# Altium schematic symbol library Allwinner.SCHLIB: 22 symbols (part 2 of 2)
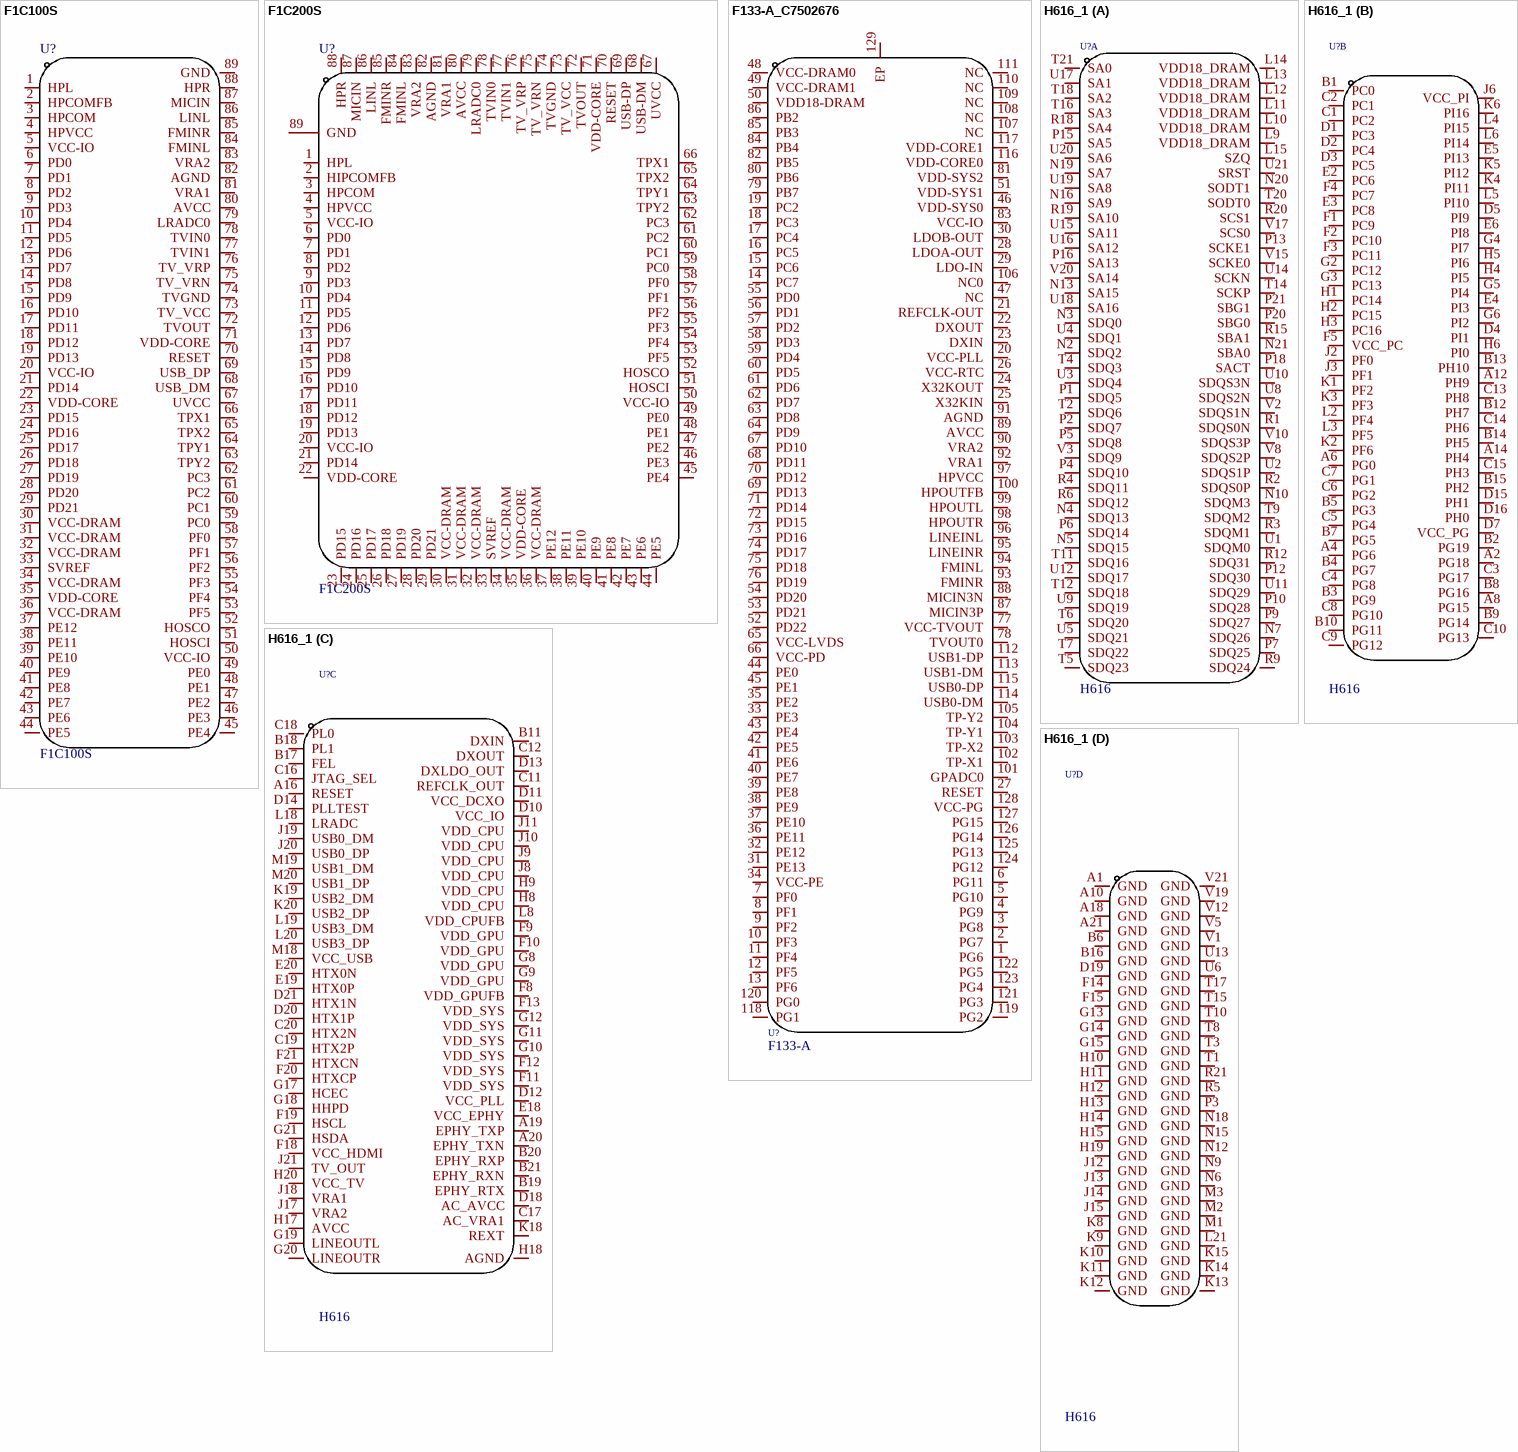
[diagram p16: symbols F1C100S to H616_1]

## F1C100S
designator U?
CPU Core:- CPU Maximum Speed:- Operating Voltage Range:- Operating Voltage Range:- Program Storage Size:- Program Memory Type:- RAM Size:- EEPROM:- GPIO Ports Number:- ADC (Bit):- DAC (Bit):- PWM (Bit):- 8Bit Timer:- 16Bit Timer:- 32Bit Timer:- CAN:- UART; Manufacturer: Allwinner(全志); Add into BOM: yes; Symbol: F1C100S; Device: F1C100S; LCSC Part Name: Allwinner F1C100S Allwinner F1C100S; Supplier Part: C1511928; Manufacturer Part: F1C100S; Supplier Footprint: MQFN-88; JLCPCB Part Class: Extended Part; Datasheet: https://atta.szlcsc.com/upload/public/pdf/source/20220817/8C890E767EBF81E3D5A44882F29EEFA7.pdf; Supplier: LCSC; Convert to PCB: yes; CPU Core: -; CPU Maximum Speed: -; Operating Voltage Range: -; Program Storage Size: -; Program Memory Type: -; RAM Size: -; EEPROM: -; GPIO Ports Number: -; ADC (Bit): -; DAC (Bit): -; PWM (Bit): -; 8Bit Timer: -; 16Bit Timer: -; 32Bit Timer: -; CAN: -; UART/USART: -; I2C: -; I2S: -; SPI: -; Universal Serial Bus: -; Internal Comparator: -; Peripheral/Function: -; communication protocol: -; Watchdog: -; Real-Time Clock: -; Infrared Data Association: -; Low-Voltage Detect: -; CCP Capture/Compare: -; LCD Module: -; LED Module: -; Secure Digital Input and Output: -; Direct Memory Access: -; Internal Oscillator: -; Operating Temperature Range: -; Name: F1C100S
footprint QFN-88_L10.0-W10.0-P0.40-BL-EP6.75
3D model QFN-88_L10.0-W10.0-H0.8-P0.40-BL-EP
pins: 1 HPL, 2 HPCOMFB, 3 HPCOM, 4 HPVCC, 5 VCC-IO, 6 PD0, 7 PD1, 8 PD2, 9 PD3, 10 PD4, 11 PD5, 12 PD6, 13 PD7, 14 PD8, 15 PD9, 16 PD10, 17 PD11, 18 PD12, 19 PD13, 20 VCC-IO, 21 PD14, 22 VDD-CORE, 23 PD15, 24 PD16, 25 PD17, 26 PD18, 27 PD19, 28 PD20, 29 PD21, 30 VCC-DRAM, 31 VCC-DRAM, 32 VCC-DRAM, 33 SVREF, 34 VCC-DRAM, 35 VDD-CORE, 36 VCC-DRAM, 37 PE12, 38 PE11, 39 PE10, 40 PE9, 41 PE8, 42 PE7, 43 PE6, 44 PE5, 45 PE4, 46 PE3, 47 PE2, 48 PE1, 49 PE0, 50 VCC-IO, 51 HOSCI, 52 HOSCO, 53 PF5, 54 PF4, 55 PF3, 56 PF2, 57 PF1, 58 PF0, 59 PC0, 60 PC1, 61 PC2, 62 PC3, 63 TPY2, 64 TPY1, 65 TPX2, 66 TPX1, 67 UVCC, 68 USB_DM, 69 USB_DP, 70 RESET, 71 VDD-CORE, 72 TVOUT, 73 TV_VCC, 74 TVGND, 75 TV_VRN, 76 TV_VRP, 77 TVIN1, 78 TVIN0, 79 LRADC0, 80 AVCC, 81 VRA1, 82 AGND, 83 VRA2, 84 FMINL, 85 FMINR, 86 LINL, 87 MICIN, 88 HPR, 89 GND

## F1C200S
designator U?
CPU Core:- CPU Maximum Speed:- Operating Voltage Range:- Operating Voltage Range:- Program Storage Size:- Program Memory Type:- RAM Size:- EEPROM:- GPIO Ports Number:- ADC (Bit):- DAC (Bit):- PWM (Bit):- 8Bit Timer:- 16Bit Timer:- 32Bit Timer:- CAN:- UART; Manufacturer: Allwinner(全志); Add into BOM: yes; Symbol: F1C200S; Device: F1C200S; LCSC Part Name: Allwinner F1C200S Allwinner F1C200S; Supplier Part: C2879851; Manufacturer Part: F1C200S; Supplier Footprint: QFN-88-EP(10x10); JLCPCB Part Class: Extended Part; Datasheet: https://atta.szlcsc.com/upload/public/pdf/source/20211016/C2879851_80200E64F493B5C5B5C583D1EECFE2F1.pdf; Supplier: LCSC; Convert to PCB: yes; CPU Core: -; CPU Maximum Speed: -; Operating Voltage Range: -; Program Storage Size: -; Program Memory Type: -; RAM Size: -; EEPROM: -; GPIO Ports Number: -; ADC (Bit): -; DAC (Bit): -; PWM (Bit): -; 8Bit Timer: -; 16Bit Timer: -; 32Bit Timer: -; CAN: -; UART/USART: -; I2C: -; I2S: -; SPI: -; Universal Serial Bus: -; Internal Comparator: -; Peripheral/Function: -; communication protocol: -; Watchdog: -; Real-Time Clock: -; Infrared Data Association: -; Low-Voltage Detect: -; CCP Capture/Compare: -; LCD Module: -; LED Module: -; Secure Digital Input and Output: -; Direct Memory Access: -; Internal Oscillator: -; Operating Temperature Range: -; Name: F1C200S
footprint QFN-88_L10.0-W10.0-P0.40-BL-EP6.75
3D model QFN-88_L10.0-W10.0-H0.8-P0.40-BL-EP
pins: 1 HPL, 2 HIPCOMFB, 3 HPCOM, 4 HPVCC, 5 VCC-IO, 6 PD0, 7 PD1, 8 PD2, 9 PD3, 10 PD4, 11 PD5, 12 PD6, 13 PD7, 14 PD8, 15 PD9, 16 PD10, 17 PD11, 18 PD12, 19 PD13, 20 VCC-IO, 21 PD14, 22 VDD-CORE, 23 PD15, 24 PD16, 25 PD17, 26 PD18, 27 PD19, 28 PD20, 29 PD21, 30 VCC-DRAM, 31 VCC-DRAM, 32 VCC-DRAM, 33 SVREF, 34 VCC-DRAM, 35 VDD-CORE, 36 VCC-DRAM, 37 PE12, 38 PE11, 39 PE10, 40 PE9, 41 PE8, 42 PE7, 43 PE6, 44 PE5, 45 PE4, 46 PE3, 47 PE2, 48 PE1, 49 PE0, 50 VCC-IO, 51 HOSCI, 52 HOSCO, 53 PF5, 54 PF4, 55 PF3, 56 PF2, 57 PF1, 58 PF0, 59 PC0, 60 PC1, 61 PC2, 62 PC3, 63 TPY2, 64 TPY1, 65 TPX2, 66 TPX1, 67 UVCC, 68 USB-DM, 69 USB-DP, 70 RESET, 71 VDD-CORE, 72 TVOUT, 73 TV_VCC, 74 TVGND, 75 TV_VRN, 76 TV_VRP, 77 TVIN1, 78 TVIN0, 79 LRADC0, 80 AVCC, 81 VRA1, 82 AGND, 83 VRA2, 84 FMINL, 85 FMINR, 86 LINL, 87 MICIN, 88 HPR, 89 GND

## F133-A_C7502676
designator U?, comment F133-A
Manufacturer: Allwinner(全志); Symbol: F133-A_C7502676; Add into BOM: yes; Name: F133-A; Device: F133-A_C7502676; LCSC Part Name: F133-A; Supplier Part: C7502676; Manufacturer Part: F133-A; Supplier Footprint: TQFP128; Supplier: LCSC; Convert to PCB: yes
footprint TQFP-128_L14.0-W14.0-P0.40-LS16.0-BL-EP6.4
3D model TQFP-128_L14.0-W14.0-P0.40-LS16.0-BL-EP6.4
pins: 1 PG6, 2 PG7, 3 PG8, 4 PG9, 5 PG10, 6 PG11, 7 PF0, 8 PF1, 9 PF2, 10 PF3, 11 PF4, 12 PF5, 13 PF6, 14 PC7, 15 PC6, 16 PC5, 17 PC4, 18 PC3, 19 PC2, 20 VCC-PLL, 21 REFCLK-OUT, 22 DXOUT, 23 DXIN, 24 X32KOUT, 25 X32KIN, 26 VCC-RTC, 27 RESET, 28 LDOA-OUT, 29 LDO-IN, 30 LDOB-OUT, 31 PE13, 32 PE12, 33 PE3, 34 VCC-PE, 35 PE2, 36 PE11, 37 PE10, 38 PE9, 39 PE8, 40 PE7, 41 PE6, 42 PE5, 43 PE4, 44 PE0, 45 PE1, 46 VDD-SYS0, 47 NC, 48 VCC-DRAM0, 49 VCC-DRAM1, 50 VDD18-DRAM, 51 VDD-SYS1, 52 PD22, 53 PD21, 54 PD20, 55 PD0, 56 PD1, 57 PD2, 58 PD3, 59 PD4, 60 PD5, 61 PD6, 62 PD7, 63 PD8, 64 PD9, 65 VCC-LVDS, 66 VCC-PD, 67 PD10, 68 PD11, 69 PD13, 70 PD12, 71 PD14, 72 PD15, 73 PD16, 74 PD17, 75 PD18, 76 PD19, 77 VCC-TVOUT, 78 TVOUT0, 79 PB7, 80 PB6, 81 VDD-SYS2, 82 PB5, 83 VCC-IO, 84 PB4, 85 PB3, 86 PB2, 87 MICIN3P, 88 MICIN3N, 89 AVCC, 90 VRA2, 91 AGND, 92 VRA1, 93 FMINR, 94 FMINL, 95 LINEINR, 96 LINEINL, 97 HPVCC, 98 HPOUTR, 99 HPOUTL, 100 HPOUTFB, 101 GPADC0, 102 TP-X1, 103 TP-X2, 104 TP-Y1, 105 TP-Y2, 106 NC0, 107 NC, 108 NC, 109 NC, 110 NC, 111 NC, 112 USB1-DP, 113 USB1-DM, 114 USB0-DM, 115 USB0-DP, 116 VDD-CORE0, 117 VDD-CORE1, 118 PG1, 119 PG2, 120 PG0, 121 PG3, 122 PG5, 123 PG4, 124 PG12, 125 PG13, 126 PG14, 127 PG15, 128 VCC-PG, 129 EP

## H616_1
designator U?, comment H616
Manufacturer: Allwinner(全志); Symbol: H616_C5365289; Device: H616_1; Add into BOM: yes; Name: H616; LCSC Part Name: Allwinner H616; Supplier Part: C5365289; Manufacturer Part: H616; Supplier Footprint: TFBGA-284; JLCPCB Part Class: Extended Part; Supplier: LCSC; Convert to PCB: yes
footprint BGA-284_L14.0-W12.0-P0.65-TL
3D model BGA-284_L14.0-W12.0-P0.65-TL
part A pins: L9 VDD18_DRAM, L10 VDD18_DRAM, L11 VDD18_DRAM, L12 VDD18_DRAM, L13 VDD18_DRAM, L14 VDD18_DRAM, L15 SZQ, N2 SDQ2, N3 SDQ0, N4 SDQ13, N5 SDQ15, N7 SDQ26, N10 SDQM3, N13 SA15, N16 SA9, N19 SA7, N20 SODT1, N21 SBA0, P1 SDQ5, P2 SDQ7, P4 SDQ10, P5 SDQ8, P6 SDQ14, P7 SDQ25, P9 SDQ27, P10 SDQ28, P12 SDQ30, P13 SCKE1, P15 SA5, P16 SA13, P18 SACT, P20 SBG0, P21 SBG1, R1 SDQS0N, R2 SDQS0P, R3 SDQM1, R4 SDQ11, R6 SDQ12, R9 SDQ24, R12 SDQ31, R15 SBA1, R18 SA4, R19 SA10, R20 SCS1, T2 SDQ6, T4 SDQ3, T5 SDQ23, T6 SDQ20, T7 SDQ22, T9 SDQM2, T11 SDQ16, T12 SDQ18, T14 SCKP, T16 SA3, T18 SA2, T20 SODT0, T21 SA0, U1 SDQM0, U2 SDQS1P, U3 SDQ4, U4 SDQ1, U5 SDQ21, U8 SDQS2N, U9 SDQ19, U10 SDQS3N, U11 SDQ29, U12 SDQ17, U14 SCKN, U15 SA11, U16 SA12, U17 SA1, U18 SA16, U19 SA8, U20 SA6, U21 SRST, V2 SDQS1N, V3 SDQ9, V8 SDQS2P, V10 SDQS3P, V15 SCKE0, V17 SCS0, V20 SA14
part B pins: A2 PG18, A4 PG6, A6 PG0, A8 PG15, A12 PH9, A14 PH4, B1 PC0, B2 PG19, B3 PG9, B4 PG7, B5 PG3, B7 PG5, B8 PG16, B9 PG14, B10 PG11, B12 PH7, B13 PH10, B14 PH5, B15 PH2, C1 PC2, C2 PC1, C3 PG17, C4 PG8, C5 PG4, C6 PG2, C7 PG1, C8 PG10, C9 PG12, C10 PG13, C13 PH8, C14 PH6, C15 PH3, D1 PC3, D2 PC4, D3 PC5, D4 PI1, D5 PI9, D7 VCC_PG, D15 PH1, D16 PH0, E2 PC6, E3 PC8, E4 PI3, E5 PI13, E6 PI8, F1 PC9, F2 PC10, F3 PC11, F4 PC7, F5 VCC_PC, G2 PC12, G3 PC13, G4 PI7, G5 PI4, G6 PI2, H1 PC14, H2 PC15, H3 PC16, H4 PI5, H5 PI6, H6 PI0, J2 PF0, J3 PF1, J6 VCC_PI, K1 PF2, K2 PF6, K3 PF3, K4 PI11, K5 PI12, K6 PI16, L2 PF4, L3 PF5, L4 PI15, L5 PI10, L6 PI14
part C pins: A16 RESET, A19 EPHY_TXP, A20 EPHY_TXN, B11 DXIN, B17 FEL, B18 PL1, B19 EPHY_RTX, B20 EPHY_RXP, B21 EPHY_RXN, C11 REFCLK_OUT, C12 DXOUT, C16 JTAG_SEL, C17 AC_VRA1, C18 PL0, C19 HTX2P, C20 HTX2N, D10 VCC_IO, D11 VCC_DCXO, D12 VCC_PLL, D13 DXLDO_OUT, D14 PLLTEST, D18 AC_AVCC, D20 HTX1P, D21 HTX1N, E18 VCC_EPHY, E19 HTX0P, E20 HTX0N, F8 VDD_GPUFB, F9 VDD_GPU, F10 VDD_GPU, F11 VDD_SYS, F12 VDD_SYS, F13 VDD_SYS, F18 VCC_HDMI, F19 HSCL, F20 HTXCP, F21 HTXCN, G8 VDD_GPU, G9 VDD_GPU, G10 VDD_SYS, G11 VDD_SYS, G12 VDD_SYS, G17 HCEC, G18 HHPD, G19 LINEOUTL, G20 LINEOUTR, G21 HSDA, H8 VDD_CPU, H9 VDD_CPU, H17 AVCC, H18 AGND, H20 VCC_TV, J8 VDD_CPU, J9 VDD_CPU, J10 VDD_CPU, J11 VDD_CPU, J17 VRA2, J18 VRA1, J19 USB0_DM, J20 USB0_DP, J21 TV_OUT, K18 REXT, K19 USB2_DM, K20 USB2_DP, L8 VDD_CPUFB, L18 LRADC, L19 USB3_DM, L20 USB3_DP, M18 VCC_USB, M19 USB1_DM, M20 USB1_DP
part D pins: A1 GND, A10 GND, A18 GND, A21 GND, B6 GND, B16 GND, D19 GND, F14 GND, F15 GND, G13 GND, G14 GND, G15 GND, H10 GND, H11 GND, H12 GND, H13 GND, H14 GND, H15 GND, H19 GND, J12 GND, J13 GND, J14 GND, J15 GND, K8 GND, K9 GND, K10 GND, K11 GND, K12 GND, K13 GND, K14 GND, K15 GND, L21 GND, M1 GND, M2 GND, M3 GND, N6 GND, N9 GND, N12 GND, N15 GND, N18 GND, P3 GND, R5 GND, R21 GND, T1 GND, T3 GND, T8 GND, T10 GND, T15 GND, T17 GND, U6 GND, U13 GND, V1 GND, V5 GND, V12 GND, V19 GND, V21 GND

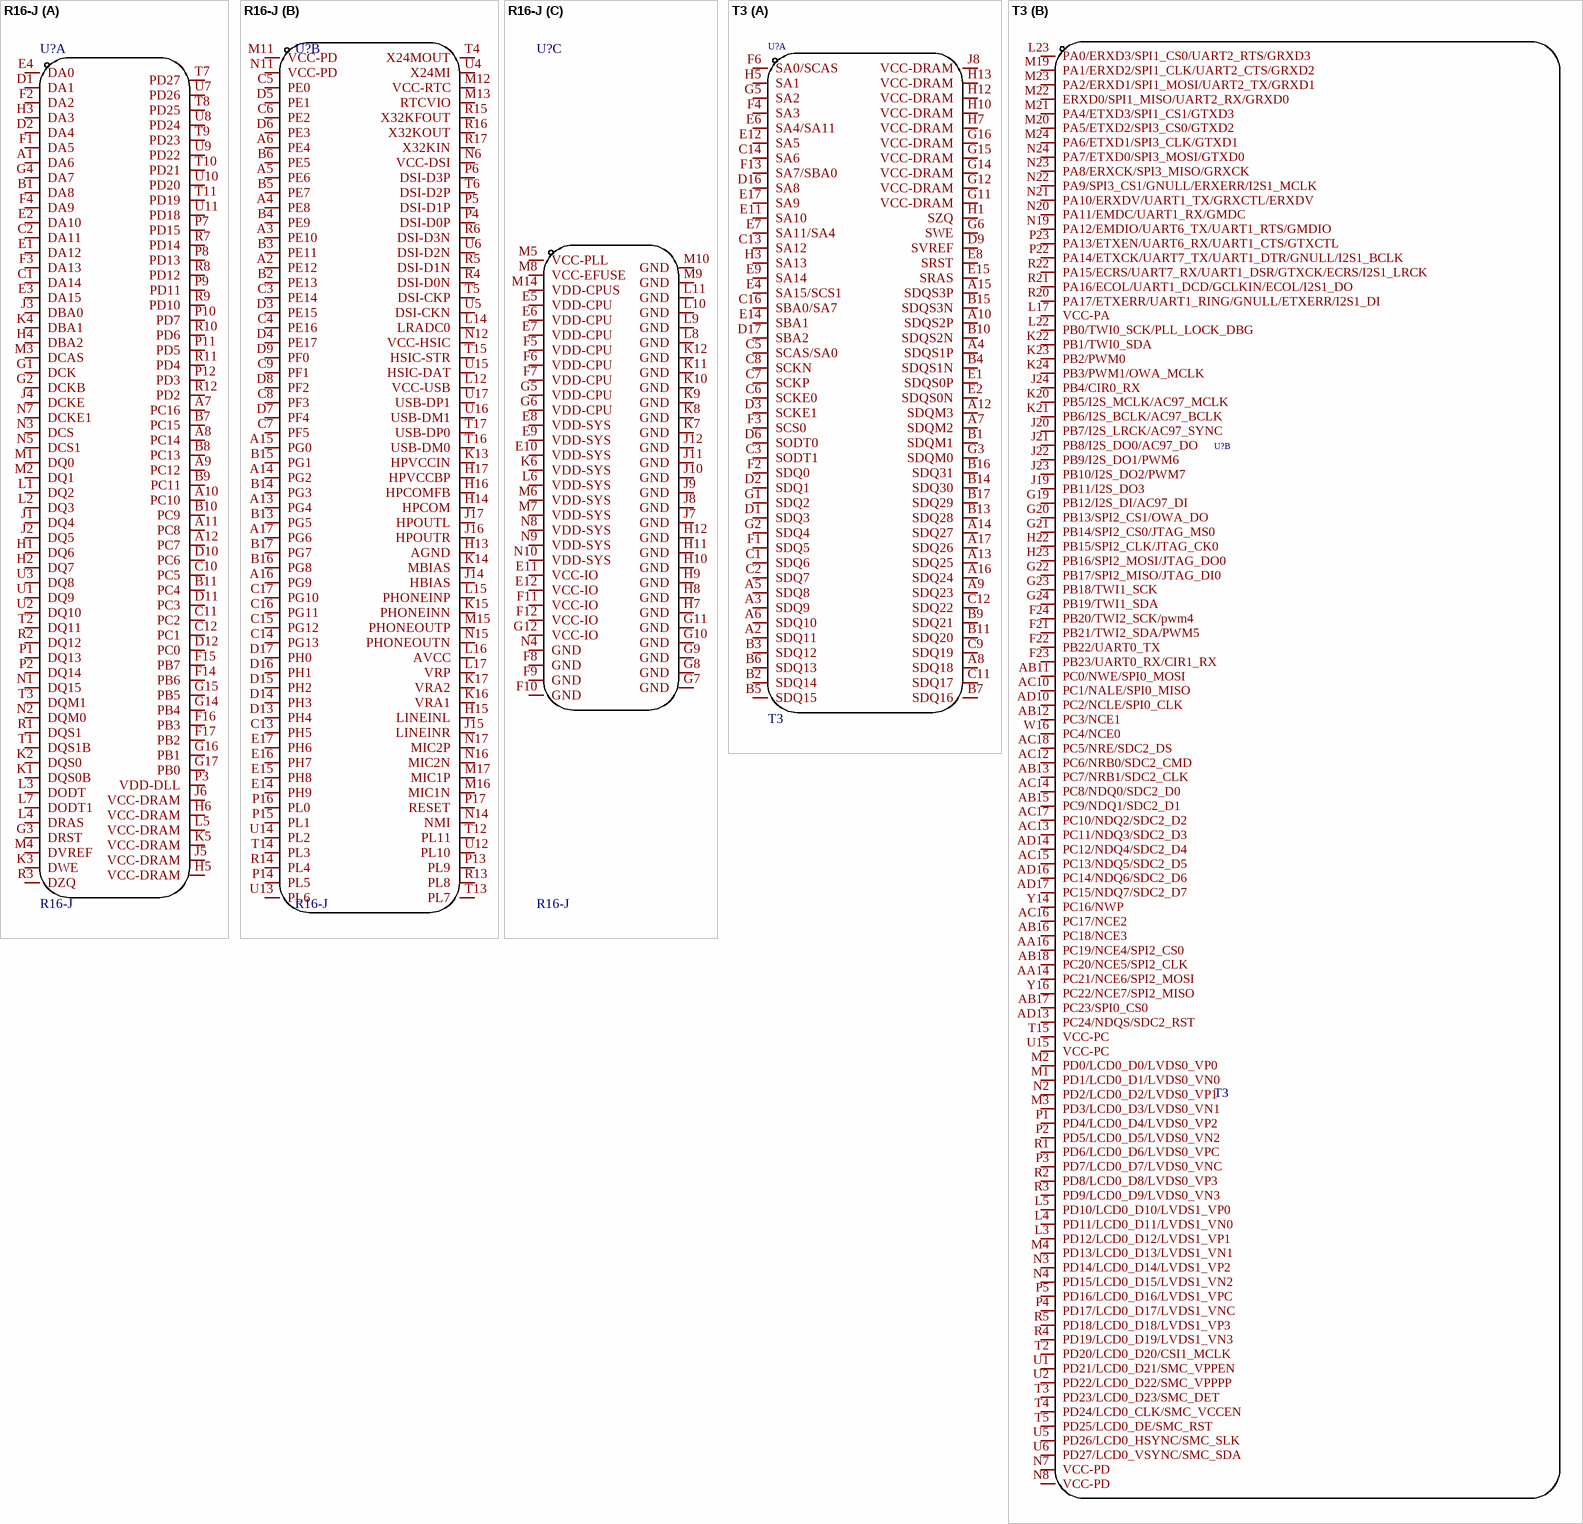
[diagram p12: symbols R16-J to T3]

## R16-J
designator U?
CPU Core:- CPU Maximum Speed:- Operating Voltage Range:- Operating Voltage Range:- Program Storage Size:- Program Memory Type:- RAM Size:- EEPROM:- GPIO Ports Number:- ADC (Bit):- DAC (Bit):- PWM (Bit):- 8Bit Timer:- 16Bit Timer:- 32Bit Timer:- CAN:- UART; Manufacturer: Allwinner(全志); Add into BOM: yes; Name: R16-J; Symbol: R16-J; Device: R16-J; LCSC Part Name: Allwinner R16-J Allwinner R16-J; Supplier Part: C3036463; Manufacturer Part: R16-J; Supplier Footprint: BGA-282; JLCPCB Part Class: Extended Part; Supplier: LCSC; Convert to PCB: yes; CPU Core: -; CPU Maximum Speed: -; Operating Voltage Range: -; Program Storage Size: -; Program Memory Type: -; RAM Size: -; EEPROM: -; GPIO Ports Number: -; ADC (Bit): -; DAC (Bit): -; PWM (Bit): -; 8Bit Timer: -; 16Bit Timer: -; 32Bit Timer: -; CAN: -; UART/USART: -; I2C: -; I2S: -; SPI: -; Universal Serial Bus: -; Internal Comparator: -; Peripheral/Function: -; communication protocol: -; Watchdog: -; Real-Time Clock: -; Infrared Data Association: -; Low-Voltage Detect: -; CCP Capture/Compare: -; LCD Module: -; LED Module: -; Secure Digital Input and Output: -; Direct Memory Access: -; Internal Oscillator: -; Operating Temperature Range: -
footprint BGA-282_L14.0-W14.0-R17-W17-P0.8-TL
3D model BGA-282_L14.0-W14.0-R17-W17-P0.8-TL
part A pins: A1 DA6, A7 PC16, A8 PC14, A9 PC12, A10 PC10, A11 PC8, A12 PC7, B1 DA8, B7 PC15, B8 PC13, B9 PC11, B10 PC9, B11 PC4, C1 DA14, C2 DA11, C10 PC5, C11 PC2, C12 PC1, D1 DA1, D2 DA4, D10 PC6, D11 PC3, D12 PC0, E1 DA12, E2 DA10, E3 DA15, E4 DA0, F1 DA5, F2 DA2, F3 DA13, F4 DA9, F14 PB6, F15 PB7, F16 PB3, F17 PB2, G1 DCK, G2 DCKB, G3 DRST, G4 DA7, G14 PB4, G15 PB5, G16 PB1, G17 PB0, H1 DQ6, H2 DQ7, H3 DA3, H4 DBA2, H5 VCC-DRAM, H6 VCC-DRAM, J1 DQ4, J2 DQ5, J3 DBA0, J4 DCKE, J5 VCC-DRAM, J6 VCC-DRAM, K1 DQS0B, K2 DQS0, K3 DWE, K4 DBA1, K5 VCC-DRAM, L1 DQ2, L2 DQ3, L3 DODT, L4 DRAS, L5 VCC-DRAM, L7 DODT1, M1 DQ0, M2 DQ1, M3 DCAS, M4 DVREF, N1 DQ15, N2 DQM0, N3 DCS, N5 DCS1, N7 DCKE1, P1 DQ13, P2 DQ14, P3 VDD-DLL, P7 PD15, P8 PD13, P9 PD11, P10 PD7, P11 PD5, P12 PD3, R1 DQS1, R2 DQ12, R3 DZQ, R7 PD14, R8 PD12, R9 PD10, R10 PD6, R11 PD4, R12 PD2, T1 DQS1B, T2 DQ11, T3 DQM1, T7 PD27, T8 PD25, T9 PD23, T10 PD21, T11 PD19, U1 DQ9, U2 DQ10, U3 DQ8, U7 PD26, U8 PD24, U9 PD22, U10 PD20, U11 PD18
part B pins: A2 PE12, A3 PE10, A4 PE8, A5 PE6, A6 PE4, A13 PG4, A14 PG2, A15 PG0, A16 PG9, A17 PG6, B2 PE13, B3 PE11, B4 PE9, B5 PE7, B6 PE5, B13 PG5, B14 PG3, B15 PG1, B16 PG8, B17 PG7, C3 PE14, C4 PE16, C5 PE0, C6 PE2, C7 PF5, C8 PF3, C9 PF1, C13 PH5, C14 PG13, C15 PG12, C16 PG11, C17 PG10, D3 PE15, D4 PE17, D5 PE1, D6 PE3, D7 PF4, D8 PF2, D9 PF0, D13 PH4, D14 PH3, D15 PH2, D16 PH1, D17 PH0, E14 PH9, E15 PH8, E16 PH7, E17 PH6, H13 AGND, H14 HPCOM, H15 LINEINL, H16 HPCOMFB, H17 HPVCCBP, J14 HBIAS, J15 LINEINR, J16 HPOUTR, J17 HPOUTL, K13 HPVCCIN, K14 MBIAS, K15 PHONEINN, K16 VRA1, K17 VRA2, L12 VCC-USB, L14 LRADC0, L15 PHONEINP, L16 AVCC, L17 VRP, M11 VCC-PD, M12 VCC-RTC, M13 RTCVIO, M15 PHONEOUTP, M16 MIC1N, M17 MIC1P, N6 VCC-DSI, N11 VCC-PD, N12 VCC-HSIC, N14 NMI, N15 PHONEOUTN, N16 MIC2N, N17 MIC2P, P4 DSI-D0P, P5 DSI-D1P, P6 DSI-D3P, P13 PL9, P14 PL5, P15 PL1, P16 PL0, P17 RESET, R4 DSI-D0N, R5 DSI-D1N, R6 DSI-D3N, R13 PL8, R14 PL4, R15 X32KFOUT, R16 X32KOUT, R17 X32KIN, T4 X24MOUT, T5 DSI-CKP, T6 DSI-D2P, T12 PL11, T13 PL7, T14 PL3, T15 HSIC-STR, T16 USB-DM0, T17 USB-DP0, U4 X24MI, U5 DSI-CKN, U6 DSI-D2N, U12 PL10, U13 PL6, U14 PL2, U15 HSIC-DAT, U16 USB-DM1, U17 USB-DP1
part C pins: E5 VDD-CPU, E6 VDD-CPU, E7 VDD-CPU, E8 VDD-SYS, E9 VDD-SYS, E10 VDD-SYS, E11 VCC-IO, E12 VCC-IO, F5 VDD-CPU, F6 VDD-CPU, F7 VDD-CPU, F8 GND, F9 GND, F10 GND, F11 VCC-IO, F12 VCC-IO, G5 VDD-CPU, G6 VDD-CPU, G7 GND, G8 GND, G9 GND, G10 GND, G11 GND, G12 VCC-IO, H7 GND, H8 GND, H9 GND, H10 GND, H11 GND, H12 GND, J7 GND, J8 GND, J9 GND, J10 GND, J11 GND, J12 GND, K6 VDD-SYS, K7 GND, K8 GND, K9 GND, K10 GND, K11 GND, K12 GND, L6 VDD-SYS, L8 GND, L9 GND, L10 GND, L11 GND, M5 VCC-PLL, M6 VDD-SYS, M7 VDD-SYS, M8 VCC-EFUSE, M9 GND, M10 GND, M14 VDD-CPUS, N4 GND, N8 VDD-SYS, N9 VDD-SYS, N10 VDD-SYS

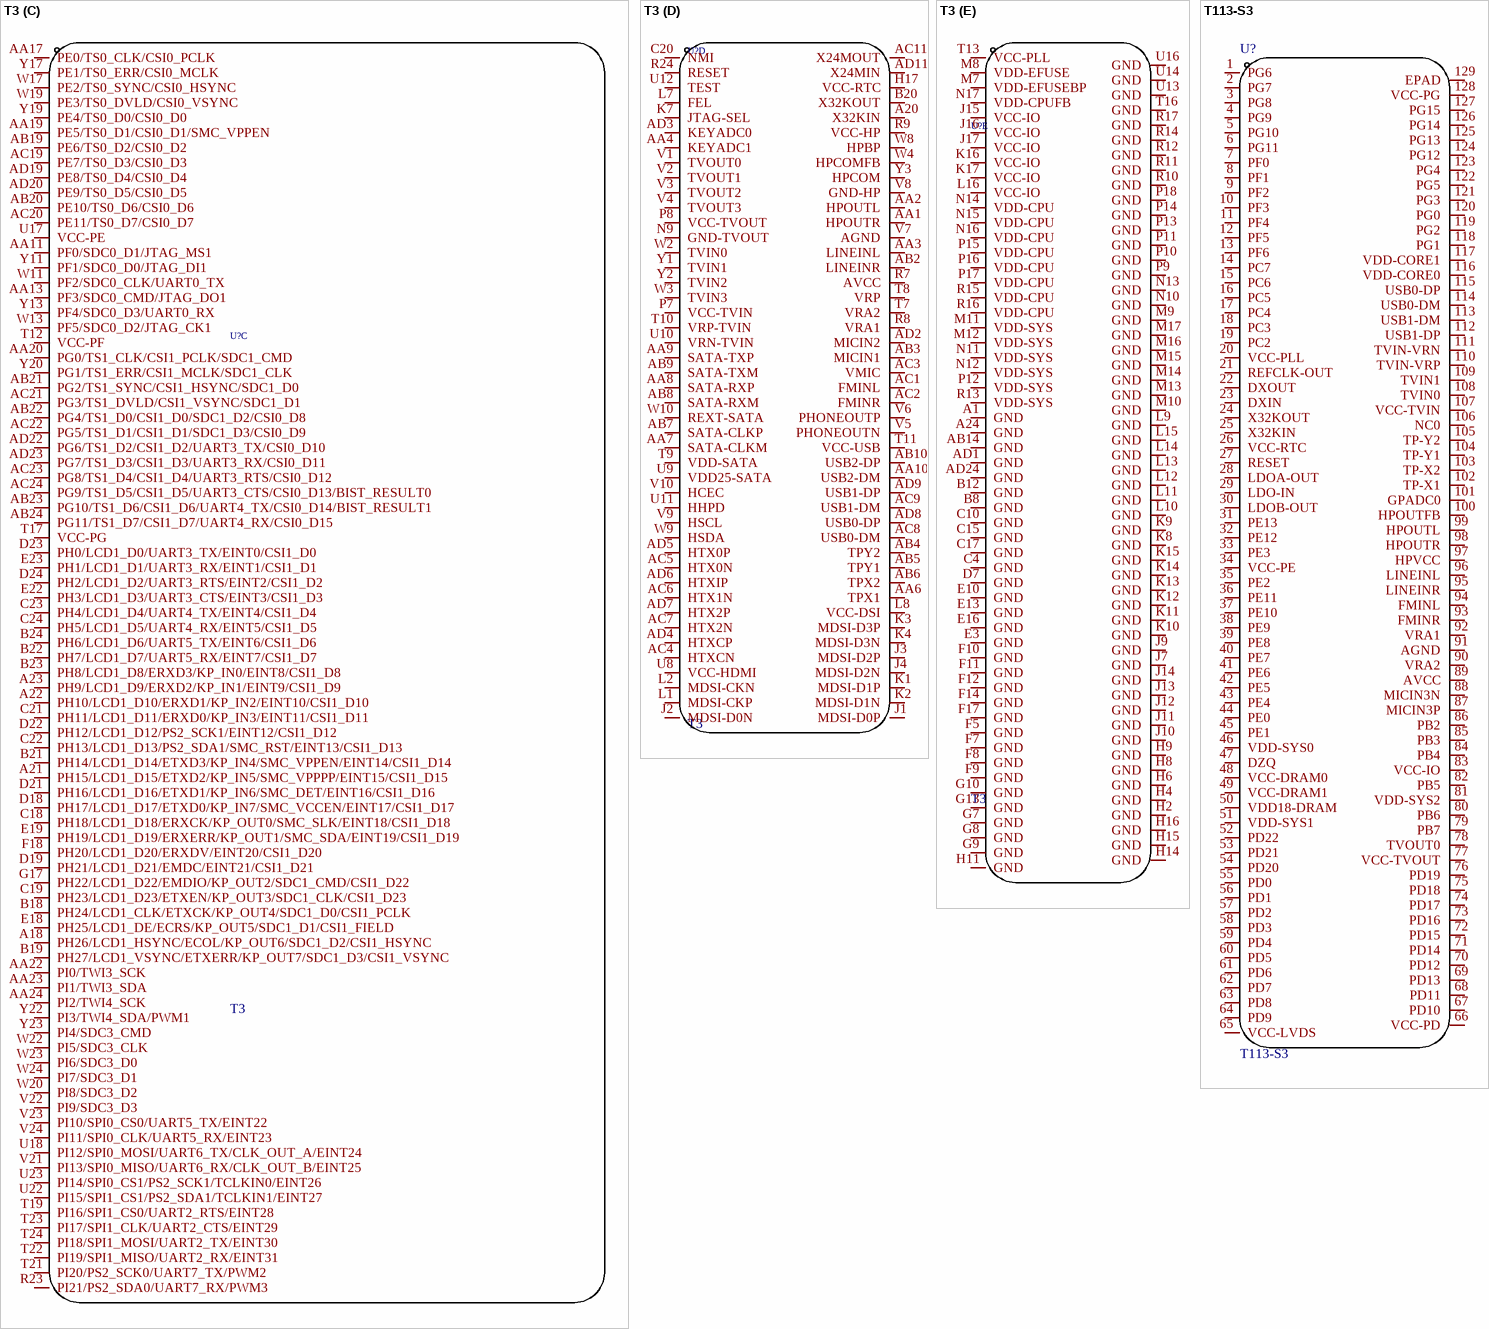
[diagram p13: symbols T3 to T113-S3]

## T3
designator U?
CPU Core:- CPU Maximum Speed:- Operating Voltage Range:- Operating Voltage Range:- Program Storage Size:- Program Memory Type:- RAM Size:- EEPROM:- GPIO Ports Number:- ADC (Bit):- DAC (Bit):- PWM (Bit):- 8Bit Timer:- 16Bit Timer:- 32Bit Timer:- CAN:- UART; Manufacturer: Allwinner(全志); Add into BOM: yes; Name: T3; Symbol: T3; Device: T3; LCSC Part Name: Allwinner T3; Supplier Part: C3036455; Manufacturer Part: T3; Supplier Footprint: FBGA-468; JLCPCB Part Class: Extended Part; Datasheet: https://atta.szlcsc.com/upload/public/pdf/source/20230317/83FE15C376713AF034FCA506A34F6F3D.pdf; Supplier: LCSC; Convert to PCB: yes; CPU Core: -; CPU Maximum Speed: -; Operating Voltage Range: -; Program Storage Size: -; Program Memory Type: -; RAM Size: -; EEPROM: -; GPIO Ports Number: -; ADC (Bit): -; DAC (Bit): -; PWM (Bit): -; 8Bit Timer: -; 16Bit Timer: -; 32Bit Timer: -; CAN: -; UART/USART: -; I2C: -; I2S: -; SPI: -; Universal Serial Bus: -; Internal Comparator: -; Peripheral/Function: -; communication protocol: -; Watchdog: -; Real-Time Clock: -; Infrared Data Association: -; Low-Voltage Detect: -; CCP Capture/Compare: -; LCD Module: -; LED Module: -; Secure Digital Input and Output: -; Direct Memory Access: -; Internal Oscillator: -; Operating Temperature Range: -
footprint LFBGA-468_L16.0-W16.0-P0.65-TL_ALLWINNER_T3
3D model LFBGA-468_L16.0-W16.0-P0.65-TL_ALLWINNER_T3
part A pins: A2 SDQ11, A3 SDQ9, A4 SDQS1P, A5 SDQ8, A6 SDQ10, A7 SDQM2, A8 SDQ18, A9 SDQ23, A10 SDQS2P, A12 SDQM3, A13 SDQ25, A14 SDQ27, A15 SDQS3P, A16 SDQ24, A17 SDQ26, B1 SDQM1, B2 SDQ14, B3 SDQ12, B4 SDQS1N, B5 SDQ15, B6 SDQ13, B7 SDQ16, B9 SDQ21, B10 SDQS2N, B11 SDQ20, B13 SDQ28, B14 SDQ30, B15 SDQS3N, B16 SDQ31, B17 SDQ29, C1 SDQ6, C2 SDQ7, C3 SODT1, C5 SCAS/SA0, C6 SCKE0, C7 SCKP, C8 SCKN, C9 SDQ19, C11 SDQ17, C12 SDQ22, C13 SA12, C14 SA6, C16 SBA0/SA7, D1 SDQ3, D2 SDQ1, D3 SCKE1, D6 SODT0, D9 SVREF, D16 SA8, D17 SBA2, E1 SDQS0P, E2 SDQS0N, E4 SA15/SCS1, E6 SA4/SA11, E7 SA11/SA4, E8 SRST, E9 SA14, E11 SA10, E12 SA5, E14 SBA1, E15 SRAS, E17 SA9, F1 SDQ5, F2 SDQ0, F3 SCS0, F4 SA3, F6 SA0/SCAS, F13 SA7/SBA0, G1 SDQ2, G2 SDQ4, G3 SDQM0, G5 SA2, G6 SWE, G11 VCC-DRAM, G12 VCC-DRAM, G14 VCC-DRAM, G15 VCC-DRAM, G16 VCC-DRAM, H1 SZQ, H3 SA13, H5 SA1, H7 VCC-DRAM, H10 VCC-DRAM, H12 VCC-DRAM, H13 VCC-DRAM, J8 VCC-DRAM
part B pins: AA14 PC21/NCE6/SPI2_MOSI, AA16 PC19/NCE4/SPI2_CS0, AB11 PC0/NWE/SPI0_MOSI, AB12 PC3/NCE1, AB13 PC7/NRB1/SDC2_CLK, AB15 PC9/NDQ1/SDC2_D1, AB16 PC18/NCE3, AB17 PC23/SPI0_CS0, AB18 PC20/NCE5/SPI2_CLK, AC10 PC1/NALE/SPI0_MISO, AC12 PC6/NRB0/SDC2_CMD, AC13 PC11/NDQ3/SDC2_D3, AC14 PC8/NDQ0/SDC2_D0, AC15 PC13/NDQ5/SDC2_D5, AC16 PC17/NCE2, AC17 PC10/NDQ2/SDC2_D2, AC18 PC5/NRE/SDC2_DS, AD10 PC2/NCLE/SPI0_CLK, AD13 PC24/NDQS/SDC2_RST, AD14 PC12/NDQ4/SDC2_D4, AD16 PC14/NDQ6/SDC2_D6, AD17 PC15/NDQ7/SDC2_D7, F21 PB21/TWI2_SDA/PWM5, F22 PB22/UART0_TX, F23 PB23/UART0_RX/CIR1_RX, F24 PB20/TWI2_SCK/pwm4, G19 PB12/I2S_DI/AC97_DI, G20 PB13/SPI2_CS1/OWA_DO, G21 PB14/SPI2_CS0/JTAG_MS0, G22 PB17/SPI2_MISO/JTAG_DI0, G23 PB18/TWI1_SCK, G24 PB19/TWI1_SDA, H22 PB15/SPI2_CLK/JTAG_CK0, H23 PB16/SPI2_MOSI/JTAG_DO0, J19 PB11/I2S_DO3, J20 PB7/I2S_LRCK/AC97_SYNC, J21 PB8/I2S_DO0/AC97_DO, J22 PB9/I2S_DO1/PWM6, J23 PB10/I2S_DO2/PWM7, J24 PB4/CIR0_RX, K20 PB5/I2S_MCLK/AC97_MCLK, K21 PB6/I2S_BCLK/AC97_BCLK, K22 PB1/TWI0_SDA, K23 PB2/PWM0, K24 PB3/PWM1/OWA_MCLK, L3 PD12/LCD0_D12/LVDS1_VP1, L4 PD11/LCD0_D11/LVDS1_VN0, L5 PD10/LCD0_D10/LVDS1_VP0, L17 VCC-PA, L22 PB0/TWI0_SCK/PLL_LOCK_DBG, L23 PA0/ERXD3/SPI1_CS0/UART2_RTS/GRXD3, M1 PD1/LCD0_D1/LVDS0_VN0, M2 PD0/LCD0_D0/LVDS0_VP0, M3 PD3/LCD0_D3/LVDS0_VN1, M4 PD13/LCD0_D13/LVDS1_VN1, M19 PA1/ERXD2/SPI1_CLK/UART2_CTS/GRXD2, M20 PA5/ETXD2/SPI3_CS0/GTXD2, M21 PA4/ETXD3/SPI1_CS1/GTXD3, M22 ERXD0/SPI1_MISO/UART2_RX/GRXD0, M23 PA2/ERXD1/SPI1_MOSI/UART2_TX/GRXD1, M24 PA6/ETXD1/SPI3_CLK/GTXD1, N2 PD2/LCD0_D2/LVDS0_VP1, N3 PD14/LCD0_D14/LVDS1_VP2, N4 PD15/LCD0_D15/LVDS1_VN2, N7 VCC-PD, N8 VCC-PD, N19 PA12/EMDIO/UART6_TX/UART1_RTS/GMDIO, N20 PA11/EMDC/UART1_RX/GMDC, N21 PA10/ERXDV/UART1_TX/GRXCTL/ERXDV, N22 PA9/SPI3_CS1/GNULL/ERXERR/I2S1_MCLK, N23 PA8/ERXCK/SPI3_MISO/GRXCK, N24 PA7/ETXD0/SPI3_MOSI/GTXD0, P1 PD4/LCD0_D4/LVDS0_VP2, P2 PD5/LCD0_D5/LVDS0_VN2, P3 PD7/LCD0_D7/LVDS0_VNC, P4 PD17/LCD0_D17/LVDS1_VNC, P5 PD16/LCD0_D16/LVDS1_VPC, P22 PA14/ETXCK/UART7_TX/UART1_DTR/GNULL/I2S1_BCLK, P23 PA13/ETXEN/UART6_RX/UART1_CTS/GTXCTL, R1 PD6/LCD0_D6/LVDS0_VPC, R2 PD8/LCD0_D8/LVDS0_VP3, R3 PD9/LCD0_D9/LVDS0_VN3, R4 PD19/LCD0_D19/LVDS1_VN3, R5 PD18/LCD0_D18/LVDS1_VP3, R20 PA17/ETXERR/UART1_RING/GNULL/ETXERR/I2S1_DI, R21 PA16/ECOL/UART1_DCD/GCLKIN/ECOL/I2S1_DO, R22 PA15/ECRS/UART7_RX/UART1_DSR/GTXCK/ECRS/I2S1_LRCK, T2 PD20/LCD0_D20/CSI1_MCLK, T3 PD23/LCD0_D23/SMC_DET, T4 PD24/LCD0_CLK/SMC_VCCEN, T5 PD25/LCD0_DE/SMC_RST, T15 VCC-PC, U1 PD21/LCD0_D21/SMC_VPPEN, U2 PD22/LCD0_D22/SMC_VPPPP, U5 PD26/LCD0_HSYNC/SMC_SLK, U6 PD27/LCD0_VSYNC/SMC_SDA, U15 VCC-PC, W16 PC4/NCE0, Y14 PC16/NWP, Y16 PC22/NCE7/SPI2_MISO
part C pins: A18 PH26/LCD1_HSYNC/ECOL/KP_OUT6/SDC1_D2/CSI1_HSYNC, A21 PH15/LCD1_D15/ETXD2/KP_IN5/SMC_VPPPP/EINT15/CSI1_D15, A22 PH10/LCD1_D10/ERXD1/KP_IN2/EINT10/CSI1_D10, A23 PH9/LCD1_D9/ERXD2/KP_IN1/EINT9/CSI1_D9, AA11 PF0/SDC0_D1/JTAG_MS1, AA13 PF3/SDC0_CMD/JTAG_DO1, AA17 PE0/TS0_CLK/CSI0_PCLK, AA19 PE5/TS0_D1/CSI0_D1/SMC_VPPEN, AA20 PG0/TS1_CLK/CSI1_PCLK/SDC1_CMD, AA22 PI0/TWI3_SCK, AA23 PI1/TWI3_SDA, AA24 PI2/TWI4_SCK, AB19 PE6/TS0_D2/CSI0_D2, AB20 PE10/TS0_D6/CSI0_D6, AB21 PG2/TS1_SYNC/CSI1_HSYNC/SDC1_D0, AB22 PG4/TS1_D0/CSI1_D0/SDC1_D2/CSI0_D8, AB23 PG10/TS1_D6/CSI1_D6/UART4_TX/CSI0_D14/BIST_RESULT1, AB24 PG11/TS1_D7/CSI1_D7/UART4_RX/CSI0_D15, AC19 PE7/TS0_D3/CSI0_D3, AC20 PE11/TS0_D7/CSI0_D7, AC21 PG3/TS1_DVLD/CSI1_VSYNC/SDC1_D1, AC22 PG5/TS1_D1/CSI1_D1/SDC1_D3/CSI0_D9, AC23 PG8/TS1_D4/CSI1_D4/UART3_RTS/CSI0_D12, AC24 PG9/TS1_D5/CSI1_D5/UART3_CTS/CSI0_D13/BIST_RESULT0, AD19 PE8/TS0_D4/CSI0_D4, AD20 PE9/TS0_D5/CSI0_D5, AD22 PG6/TS1_D2/CSI1_D2/UART3_TX/CSI0_D10, AD23 PG7/TS1_D3/CSI1_D3/UART3_RX/CSI0_D11, B18 PH24/LCD1_CLK/ETXCK/KP_OUT4/SDC1_D0/CSI1_PCLK, B19 PH27/LCD1_VSYNC/ETXERR/KP_OUT7/SDC1_D3/CSI1_VSYNC, B21 PH14/LCD1_D14/ETXD3/KP_IN4/SMC_VPPEN/EINT14/CSI1_D14, B22 PH7/LCD1_D7/UART5_RX/EINT7/CSI1_D7, B23 PH8/LCD1_D8/ERXD3/KP_IN0/EINT8/CSI1_D8, B24 PH6/LCD1_D6/UART5_TX/EINT6/CSI1_D6, C18 PH18/LCD1_D18/ERXCK/KP_OUT0/SMC_SLK/EINT18/CSI1_D18, C19 PH23/LCD1_D23/ETXEN/KP_OUT3/SDC1_CLK/CSI1_D23, C21 PH11/LCD1_D11/ERXD0/KP_IN3/EINT11/CSI1_D11, C22 PH13/LCD1_D13/PS2_SDA1/SMC_RST/EINT13/CSI1_D13, C23 PH4/LCD1_D4/UART4_TX/EINT4/CSI1_D4, C24 PH5/LCD1_D5/UART4_RX/EINT5/CSI1_D5, D18 PH17/LCD1_D17/ETXD0/KP_IN7/SMC_VCCEN/EINT17/CSI1_D17, D19 PH21/LCD1_D21/EMDC/EINT21/CSI1_D21, D21 PH16/LCD1_D16/ETXD1/KP_IN6/SMC_DET/EINT16/CSI1_D16, D22 PH12/LCD1_D12/PS2_SCK1/EINT12/CSI1_D12, D23 PH0/LCD1_D0/UART3_TX/EINT0/CSI1_D0, D24 PH2/LCD1_D2/UART3_RTS/EINT2/CSI1_D2, E18 PH25/LCD1_DE/ECRS/KP_OUT5/SDC1_D1/CSI1_FIELD, E19 PH19/LCD1_D19/ERXERR/KP_OUT1/SMC_SDA/EINT19/CSI1_D19, E22 PH3/LCD1_D3/UART3_CTS/EINT3/CSI1_D3, E23 PH1/LCD1_D1/UART3_RX/EINT1/CSI1_D1, F18 PH20/LCD1_D20/ERXDV/EINT20/CSI1_D20, G17 PH22/LCD1_D22/EMDIO/KP_OUT2/SDC1_CMD/CSI1_D22, R23 PI21/PS2_SDA0/UART7_RX/PWM3, T12 VCC-PF, T17 VCC-PG, T19 PI16/SPI1_CS0/UART2_RTS/EINT28, T21 PI20/PS2_SCK0/UART7_TX/PWM2, T22 PI19/SPI1_MISO/UART2_RX/EINT31, T23 PI17/SPI1_CLK/UART2_CTS/EINT29, T24 PI18/SPI1_MOSI/UART2_TX/EINT30, U17 VCC-PE, U18 PI12/SPI0_MOSI/UART6_TX/CLK_OUT_A/EINT24, U22 PI15/SPI1_CS1/PS2_SDA1/TCLKIN1/EINT27, U23 PI14/SPI0_CS1/PS2_SCK1/TCLKIN0/EINT26, V21 PI13/SPI0_MISO/UART6_RX/CLK_OUT_B/EINT25, V22 PI9/SDC3_D3, V23 PI10/SPI0_CS0/UART5_TX/EINT22, V24 PI11/SPI0_CLK/UART5_RX/EINT23, W11 PF2/SDC0_CLK/UART0_TX, W13 PF5/SDC0_D2/JTAG_CK1, W17 PE2/TS0_SYNC/CSI0_HSYNC, W19 PE3/TS0_DVLD/CSI0_VSYNC, W20 PI8/SDC3_D2, W22 PI5/SDC3_CLK, W23 PI6/SDC3_D0, W24 PI7/SDC3_D1, Y11 PF1/SDC0_D0/JTAG_DI1, Y13 PF4/SDC0_D3/UART0_RX, Y17 PE1/TS0_ERR/CSI0_MCLK, Y19 PE4/TS0_D0/CSI0_D0, Y20 PG1/TS1_ERR/CSI1_MCLK/SDC1_CLK, Y22 PI3/TWI4_SDA/PWM1, Y23 PI4/SDC3_CMD
part D pins: A20 X32KIN, AA1 HPOUTR, AA2 HPOUTL, AA3 LINEINL, AA4 KEYADC1, AA6 TPX1, AA7 SATA-CLKM, AA8 SATA-RXP, AA9 SATA-TXP, AA10 USB2-DM, AB2 LINEINR, AB3 MICIN1, AB4 TPY2, AB5 TPY1, AB6 TPX2, AB7 SATA-CLKP, AB8 SATA-RXM, AB9 SATA-TXM, AB10 USB2-DP, AC1 FMINL, AC2 FMINR, AC3 VMIC, AC4 HTXCN, AC5 HTX0N, AC6 HTX1N, AC7 HTX2N, AC8 USB0-DM, AC9 USB1-DM, AC11 X24MOUT, AD2 MICIN2, AD3 KEYADC0, AD4 HTXCP, AD5 HTX0P, AD6 HTXIP, AD7 HTX2P, AD8 USB0-DP, AD9 USB1-DP, AD11 X24MIN, B20 X32KOUT, C20 NMI, H17 VCC-RTC, J1 MDSI-D0P, J2 MDSI-D0N, J3 MDSI-D2P, J4 MDSI-D2N, K1 MDSI-D1P, K2 MDSI-D1N, K3 MDSI-D3P, K4 MDSI-D3N, K7 JTAG-SEL, L1 MDSI-CKP, L2 MDSI-CKN, L7 FEL, L8 VCC-DSI, N9 GND-TVOUT, P7 VCC-TVIN, P8 VCC-TVOUT, R7 AVCC, R8 VRA1, R9 VCC-HP, R24 RESET, T7 VRA2, T8 VRP, T9 VDD-SATA, T10 VRP-TVIN, T11 VCC-USB, U8 VCC-HDMI, U9 VDD25-SATA, U10 VRN-TVIN, U11 HHPD, U12 TEST, V1 TVOUT0, V2 TVOUT1, V3 TVOUT2, V4 TVOUT3, V5 PHONEOUTN, V6 PHONEOUTP, V7 AGND, V8 GND-HP, V9 HSCL, V10 HCEC, W2 TVIN0, W3 TVIN3, W4 HPCOMFB, W8 HPBP, W9 HSDA, W10 REXT-SATA, Y1 TVIN1, Y2 TVIN2, Y3 HPCOM
part E pins: A1 GND, A24 GND, AB14 GND, AD1 GND, AD24 GND, B8 GND, B12 GND, C4 GND, C10 GND, C15 GND, C17 GND, D7 GND, E3 GND, E10 GND, E13 GND, E16 GND, F5 GND, F7 GND, F8 GND, F9 GND, F10 GND, F11 GND, F12 GND, F14 GND, F17 GND, G7 GND, G8 GND, G9 GND, G10 GND, G13 GND, H2 GND, H4 GND, H6 GND, H8 GND, H9 GND, H11 GND, H14 GND, H15 GND, H16 GND, J7 GND, J9 GND, J10 GND, J11 GND, J12 GND, J13 GND, J14 GND, J15 VCC-IO, J16 VCC-IO, J17 VCC-IO, K8 GND, K9 GND, K10 GND, K11 GND, K12 GND, K13 GND, K14 GND, K15 GND, K16 VCC-IO, K17 VCC-IO, L9 GND, L10 GND, L11 GND, L12 GND, L13 GND, L14 GND, L15 GND, L16 VCC-IO, M7 VDD-EFUSEBP, M8 VDD-EFUSE, M9 GND, M10 GND, M11 VDD-SYS, M12 VDD-SYS, M13 GND, M14 GND, M15 GND, M16 GND, M17 GND, N10 GND, N11 VDD-SYS, N12 VDD-SYS, N13 GND, N14 VDD-CPU, N15 VDD-CPU, N16 VDD-CPU, N17 VDD-CPUFB, P9 GND, P10 GND, P11 GND, P12 VDD-SYS, P13 GND, P14 GND, P15 VDD-CPU, P16 VDD-CPU, P17 VDD-CPU, P18 GND, R10 GND, R11 GND, R12 GND, R13 VDD-SYS, R14 GND, R15 VDD-CPU, R16 VDD-CPU, R17 GND, T13 VCC-PLL, T16 GND, U13 GND, U14 GND, U16 GND

## T113-S3
designator U?
Add into BOM: yes; Name: T113-S3; Symbol: T113-S3; Device: T113-S3; LCSC Part Name: T113-S3; Supplier Part: C9900015916; Manufacturer Part: T113-S3; Supplier Footprint: eQFP-128-0.4-P; JLCPCB Part Class: Extended Part; Datasheet: https://atta.szlcsc.comnull; Supplier: LCSC; Convert to PCB: yes
footprint TQFP-128_L14.0-W14.0-P0.40-LS16.0-BL-EP6.4
3D model TQFP-128_L14.0-W14.0-P0.40-LS16.0-BL-EP6.4
pins: 1 PG6, 2 PG7, 3 PG8, 4 PG9, 5 PG10, 6 PG11, 7 PF0, 8 PF1, 9 PF2, 10 PF3, 11 PF4, 12 PF5, 13 PF6, 14 PC7, 15 PC6, 16 PC5, 17 PC4, 18 PC3, 19 PC2, 20 VCC-PLL, 21 REFCLK-OUT, 22 DXOUT, 23 DXIN, 24 X32KOUT, 25 X32KIN, 26 VCC-RTC, 27 RESET, 28 LDOA-OUT, 29 LDO-IN, 30 LDOB-OUT, 31 PE13, 32 PE12, 33 PE3, 34 VCC-PE, 35 PE2, 36 PE11, 37 PE10, 38 PE9, 39 PE8, 40 PE7, 41 PE6, 42 PE5, 43 PE4, 44 PE0, 45 PE1, 46 VDD-SYS0, 47 DZQ, 48 VCC-DRAM0, 49 VCC-DRAM1, 50 VDD18-DRAM, 51 VDD-SYS1, 52 PD22, 53 PD21, 54 PD20, 55 PD0, 56 PD1, 57 PD2, 58 PD3, 59 PD4, 60 PD5, 61 PD6, 62 PD7, 63 PD8, 64 PD9, 65 VCC-LVDS, 66 VCC-PD, 67 PD10, 68 PD11, 69 PD13, 70 PD12, 71 PD14, 72 PD15, 73 PD16, 74 PD17, 75 PD18, 76 PD19, 77 VCC-TVOUT, 78 TVOUT0, 79 PB7, 80 PB6, 81 VDD-SYS2, 82 PB5, 83 VCC-IO, 84 PB4, 85 PB3, 86 PB2, 87 MICIN3P, 88 MICIN3N, 89 AVCC, 90 VRA2, 91 AGND, 92 VRA1, 93 FMINR, 94 FMINL, 95 LINEINR, 96 LINEINL, 97 HPVCC, 98 HPOUTR, 99 HPOUTL, 100 HPOUTFB, 101 GPADC0, 102 TP-X1, 103 TP-X2, 104 TP-Y1, 105 TP-Y2, 106 NC0, 107 VCC-TVIN, 108 TVIN0, 109 TVIN1, 110 TVIN-VRP, 111 TVIN-VRN, 112 USB1-DP, 113 USB1-DM, 114 USB0-DM, 115 USB0-DP, 116 VDD-CORE0, 117 VDD-CORE1, 118 PG1, 119 PG2, 120 PG0, 121 PG3, 122 PG5, 123 PG4, 124 PG12, 125 PG13, 126 PG14, 127 PG15, 128 VCC-PG, 129 EPAD

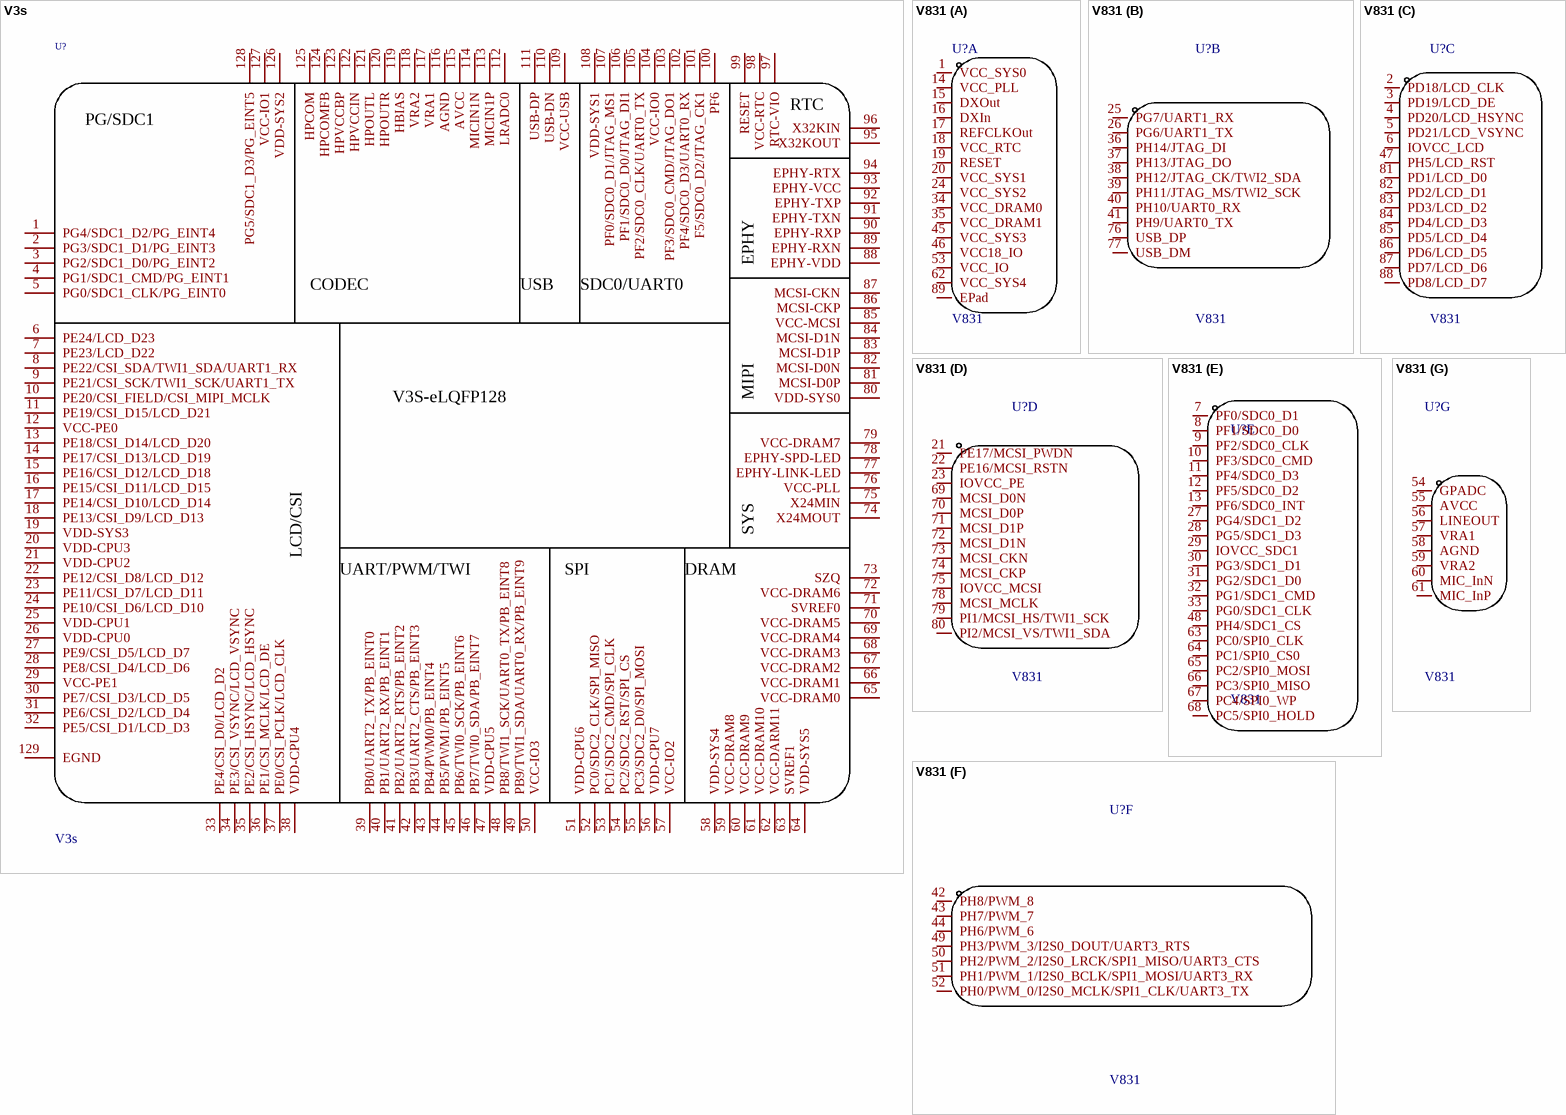
[diagram p14: symbols V3s to V831]

## V3s
designator U?
CPU Core:- CPU Maximum Speed:- Operating Voltage Range:- Operating Voltage Range:- Program Storage Size:- Program Memory Type:- RAM Size:- EEPROM:- GPIO Ports Number:- ADC (Bit):- DAC (Bit):- PWM (Bit):- 8Bit Timer:- 16Bit Timer:- 32Bit Timer:- CAN:- UART; Manufacturer: Allwinner(全志); Add into BOM: yes; Name: V3s; Symbol: V3S; Device: V3s; LCSC Part Name: Allwinner V3s; Supplier Part: C2687449; Manufacturer Part: V3s; Supplier Footprint: LQFP-128-EP(14x14); JLCPCB Part Class: Extended Part; Supplier: LCSC; Convert to PCB: yes; CPU Core: -; CPU Maximum Speed: -; Operating Voltage Range: -; Program Storage Size: -; Program Memory Type: -; RAM Size: -; EEPROM: -; GPIO Ports Number: -; ADC (Bit): -; DAC (Bit): -; PWM (Bit): -; 8Bit Timer: -; 16Bit Timer: -; 32Bit Timer: -; CAN: -; UART/USART: -; I2C: -; I2S: -; SPI: -; Universal Serial Bus: -; Internal Comparator: -; Peripheral/Function: -; communication protocol: -; Watchdog: -; Real-Time Clock: -; Infrared Data Association: -; Low-Voltage Detect: -; CCP Capture/Compare: -; LCD Module: -; LED Module: -; Secure Digital Input and Output: -; Direct Memory Access: -; Internal Oscillator: -; Operating Temperature Range: -
footprint LQFP-128_L14.0-W14.0-P0.40-LS16.0-BL-EP5.0
3D model LQFP-128_L14.0-W14.0-P0.40-LS16.0-BL-EP5.0
pins: 1 PG4/SDC1_D2/PG_EINT4, 2 PG3/SDC1_D1/PG_EINT3, 3 PG2/SDC1_D0/PG_EINT2, 4 PG1/SDC1_CMD/PG_EINT1, 5 PG0/SDC1_CLK/PG_EINT0, 6 PE24/LCD_D23, 7 PE23/LCD_D22, 8 PE22/CSI_SDA/TWI1_SDA/UART1_RX, 9 PE21/CSI_SCK/TWI1_SCK/UART1_TX, 10 PE20/CSI_FIELD/CSI_MIPI_MCLK, 11 PE19/CSI_D15/LCD_D21, 12 VCC-PE0, 13 PE18/CSI_D14/LCD_D20, 14 PE17/CSI_D13/LCD_D19, 15 PE16/CSI_D12/LCD_D18, 16 PE15/CSI_D11/LCD_D15, 17 PE14/CSI_D10/LCD_D14, 18 PE13/CSI_D9/LCD_D13, 19 VDD-SYS3, 20 VDD-CPU3, 21 VDD-CPU2, 22 PE12/CSI_D8/LCD_D12, 23 PE11/CSI_D7/LCD_D11, 24 PE10/CSI_D6/LCD_D10, 25 VDD-CPU1, 26 VDD-CPU0, 27 PE9/CSI_D5/LCD_D7, 28 PE8/CSI_D4/LCD_D6, 29 VCC-PE1, 30 PE7/CSI_D3/LCD_D5, 31 PE6/CSI_D2/LCD_D4, 32 PE5/CSI_D1/LCD_D3, 33 PE4/CSI_D0/LCD_D2, 34 PE3/CSI_VSYNC/LCD_VSYNC, 35 PE2/CSI_HSYNC/LCD_HSYNC, 36 PE1/CSI_MCLK/LCD_DE, 37 PE0/CSI_PCLK/LCD_CLK, 38 VDD-CPU4, 39 PB0/UART2_TX/PB_EINT0, 40 PB1/UART2_RX/PB_EINT1, 41 PB2/UART2_RTS/PB_EINT2, 42 PB3/UART2_CTS/PB_EINT3, 43 PB4/PWM0/PB_EINT4, 44 PB5/PWM1/PB_EINT5, 45 PB6/TWI0_SCK/PB_EINT6, 46 PB7/TWI0_SDA/PB_EINT7, 47 VDD-CPU5, 48 PB8/TWI1_SCK/UART0_TX/PB_EINT8, 49 PB9/TWI1_SDA/UART0_RX/PB_EINT9, 50 VCC-IO3, 51 VDD-CPU6, 52 PC0/SDC2_CLK/SPI_MISO, 53 PC1/SDC2_CMD/SPI_CLK, 54 PC2/SDC2_RST/SPI_CS, 55 PC3/SDC2_D0/SPI_MOSI, 56 VDD-CPU7, 57 VCC-IO2, 58 VDD-SYS4, 59 VCC-DRAM8, 60 VCC-DRAM9, 61 VCC-DRAM10, 62 VCC-DARM11, 63 SVREF1, 64 VDD-SYS5, 65 VCC-DRAM0, 66 VCC-DRAM1, 67 VCC-DRAM2, 68 VCC-DRAM3, 69 VCC-DRAM4, 70 VCC-DRAM5, 71 SVREF0, 72 VCC-DRAM6, 73 SZQ, 74 X24MOUT, 75 X24MIN, 76 VCC-PLL, 77 EPHY-LINK-LED, 78 EPHY-SPD-LED, 79 VCC-DRAM7, 80 VDD-SYS0, 81 MCSI-D0P, 82 MCSI-D0N, 83 MCSI-D1P, 84 MCSI-D1N, 85 VCC-MCSI, 86 MCSI-CKP, 87 MCSI-CKN, 88 EPHY-VDD, 89 EPHY-RXN, 90 EPHY-RXP, 91 EPHY-TXN, 92 EPHY-TXP, 93 EPHY-VCC, 94 EPHY-RTX, 95 X32KOUT, 96 X32KIN, 97 RTC-VIO, 98 VCC-RTC, 99 RESET, 100 PF6, 101 F5/SDC0_D2/JTAG_CK1, 102 PF4/SDC0_D3/UART0_RX, 103 PF3/SDC0_CMD/JTAG_DO1, 104 VCC-IO0, 105 PF2/SDC0_CLK/UART0_TX, 106 PF1/SDC0_D0/JTAG_DI1, 107 PF0/SDC0_D1/JTAG_MS1, 108 VDD-SYS1, 109 VCC-USB, 110 USB-DN, 111 USB-DP, 112 LRADC0, 113 MICIN1P, 114 MICIN1N, 115 AVCC, 116 AGND, 117 VRA1, 118 VRA2, 119 HBIAS, 120 HPOUTR, 121 HPOUTL, 122 HPVCCIN, 123 HPVCCBP, 124 HPCOMFB, 125 HPCOM, 126 VDD-SYS2, 127 VCC-IO1, 128 PG5/SDC1_D3/PG_EINT5, 129 EGND
text: RTC; PG/SDC1; EPHY; CODEC; USB; SDC0/UART0; MIPI; V3S-eLQFP128; SYS; LCD/CSI; UART/PWM/TWI; SPI; DRAM

## V831
designator U?
CPU Core:- CPU Maximum Speed:- Operating Voltage Range:- Operating Voltage Range:- Program Storage Size:- Program Memory Type:- RAM Size:- EEPROM:- GPIO Ports Number:- ADC (Bit):- DAC (Bit):- PWM (Bit):- 8Bit Timer:- 16Bit Timer:- 32Bit Timer:- CAN:- UART; Manufacturer: Allwinner(全志); Add into BOM: yes; Name: V831; Symbol: V831; Device: V831; LCSC Part Name: Allwinner V831; Supplier Part: C2917116; Manufacturer Part: V831; Supplier Footprint: QFN-88; JLCPCB Part Class: Extended Part; Supplier: LCSC; Convert to PCB: yes; CPU Core: -; CPU Maximum Speed: -; Operating Voltage Range: -; Program Storage Size: -; Program Memory Type: -; RAM Size: -; EEPROM: -; GPIO Ports Number: -; ADC (Bit): -; DAC (Bit): -; PWM (Bit): -; 8Bit Timer: -; 16Bit Timer: -; 32Bit Timer: -; CAN: -; UART/USART: -; I2C: -; I2S: -; SPI: -; Universal Serial Bus: -; Internal Comparator: -; Peripheral/Function: -; communication protocol: -; Watchdog: -; Real-Time Clock: -; Infrared Data Association: -; Low-Voltage Detect: -; CCP Capture/Compare: -; LCD Module: -; LED Module: -; Secure Digital Input and Output: -; Direct Memory Access: -; Internal Oscillator: -; Operating Temperature Range: -
footprint QFN-88_L9.0-W9.0-P0.35-TL-EP6.5
3D model QFN-88_L9.0-W9.0-P0.35-TL-EP6.5
part A pins: 1 VCC_SYS0, 14 VCC_PLL, 15 DXOut, 16 DXIn, 17 REFCLKOut, 18 VCC_RTC, 19 RESET, 20 VCC_SYS1, 24 VCC_SYS2, 34 VCC_DRAM0, 35 VCC_DRAM1, 45 VCC_SYS3, 46 VCC18_IO, 53 VCC_IO, 62 VCC_SYS4, 89 EPad
part B pins: 25 PG7/UART1_RX, 26 PG6/UART1_TX, 36 PH14/JTAG_DI, 37 PH13/JTAG_DO, 38 PH12/JTAG_CK/TWI2_SDA, 39 PH11/JTAG_MS/TWI2_SCK, 40 PH10/UART0_RX, 41 PH9/UART0_TX, 76 USB_DP, 77 USB_DM
part C pins: 2 PD18/LCD_CLK, 3 PD19/LCD_DE, 4 PD20/LCD_HSYNC, 5 PD21/LCD_VSYNC, 6 IOVCC_LCD, 47 PH5/LCD_RST, 81 PD1/LCD_D0, 82 PD2/LCD_D1, 83 PD3/LCD_D2, 84 PD4/LCD_D3, 85 PD5/LCD_D4, 86 PD6/LCD_D5, 87 PD7/LCD_D6, 88 PD8/LCD_D7
part D pins: 21 PE17/MCSI_PWDN, 22 PE16/MCSI_RSTN, 23 IOVCC_PE, 69 MCSI_D0N, 70 MCSI_D0P, 71 MCSI_D1P, 72 MCSI_D1N, 73 MCSI_CKN, 74 MCSI_CKP, 75 IOVCC_MCSI, 78 MCSI_MCLK, 79 PI1/MCSI_HS/TWI1_SCK, 80 PI2/MCSI_VS/TWI1_SDA
part E pins: 7 PF0/SDC0_D1, 8 PF1/SDC0_D0, 9 PF2/SDC0_CLK, 10 PF3/SDC0_CMD, 11 PF4/SDC0_D3, 12 PF5/SDC0_D2, 13 PF6/SDC0_INT, 27 PG4/SDC1_D2, 28 PG5/SDC1_D3, 29 IOVCC_SDC1, 30 PG3/SDC1_D1, 31 PG2/SDC1_D0, 32 PG1/SDC1_CMD, 33 PG0/SDC1_CLK, 48 PH4/SDC1_CS, 63 PC0/SPI0_CLK, 64 PC1/SPI0_CS0, 65 PC2/SPI0_MOSI, 66 PC3/SPI0_MISO, 67 PC4/SPI0_WP, 68 PC5/SPI0_HOLD
part F pins: 42 PH8/PWM_8, 43 PH7/PWM_7, 44 PH6/PWM_6, 49 PH3/PWM_3/I2S0_DOUT/UART3_RTS, 50 PH2/PWM_2/I2S0_LRCK/SPI1_MISO/UART3_CTS, 51 PH1/PWM_1/I2S0_BCLK/SPI1_MOSI/UART3_RX, 52 PH0/PWM_0/I2S0_MCLK/SPI1_CLK/UART3_TX
part G pins: 54 GPADC, 55 AVCC, 56 LINEOUT, 57 VRA1, 58 AGND, 59 VRA2, 60 MIC_InN, 61 MIC_InP

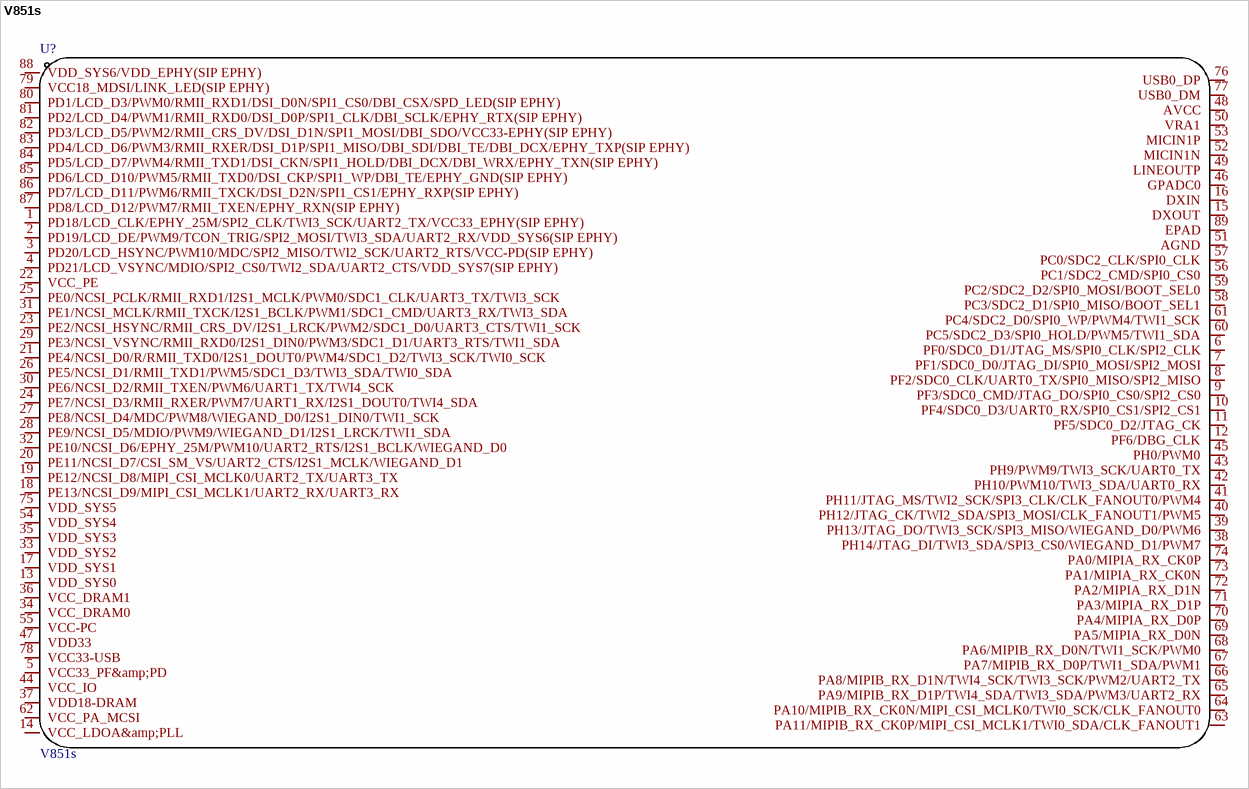
[diagram p15: symbol V851s]

## V851s
designator U?
Manufacturer: Allwinner(全志); Add into BOM: yes; Name: V851s; Symbol: V851S; Device: V851s; LCSC Part Name: Allwinner V851s; Supplier Part: C5365286; Manufacturer Part: V851s; Supplier Footprint: QFN-88; JLCPCB Part Class: Extended Part; Datasheet: https://atta.szlcsc.com/upload/public/pdf/source/20230321/D7FD75EFFC81CFF72930135A0F42A003.pdf; Supplier: LCSC; Convert to PCB: yes
footprint QFN-88_L9.0-W9.0-P0.35-TL-EP6.5
3D model QFN-88_L9.0-W9.0-P0.35-TL-EP6.5
pins: 1 PD18/LCD_CLK/EPHY_25M/SPI2_CLK/TWI3_SCK/UART2_TX/VCC33_EPHY(SIP EPHY), 2 PD19/LCD_DE/PWM9/TCON_TRIG/SPI2_MOSI/TWI3_SDA/UART2_RX/VDD_SYS6(SIP EPHY), 3 PD20/LCD_HSYNC/PWM10/MDC/SPI2_MISO/TWI2_SCK/UART2_RTS/VCC-PD(SIP EPHY), 4 PD21/LCD_VSYNC/MDIO/SPI2_CS0/TWI2_SDA/UART2_CTS/VDD_SYS7(SIP EPHY), 5 VCC33_PF&amp;PD, 6 PF0/SDC0_D1/JTAG_MS/SPI0_CLK/SPI2_CLK, 7 PF1/SDC0_D0/JTAG_DI/SPI0_MOSI/SPI2_MOSI, 8 PF2/SDC0_CLK/UART0_TX/SPI0_MISO/SPI2_MISO, 9 PF3/SDC0_CMD/JTAG_DO/SPI0_CS0/SPI2_CS0, 10 PF4/SDC0_D3/UART0_RX/SPI0_CS1/SPI2_CS1, 11 PF5/SDC0_D2/JTAG_CK, 12 PF6/DBG_CLK, 13 VDD_SYS0, 14 VCC_LDOA&amp;PLL, 15 DXOUT, 16 DXIN, 17 VDD_SYS1, 18 PE13/NCSI_D9/MIPI_CSI_MCLK1/UART2_RX/UART3_RX, 19 PE12/NCSI_D8/MIPI_CSI_MCLK0/UART2_TX/UART3_TX, 20 PE11/NCSI_D7/CSI_SM_VS/UART2_CTS/I2S1_MCLK/WIEGAND_D1, 21 PE4/NCSI_D0/R/RMII_TXD0/I2S1_DOUT0/PWM4/SDC1_D2/TWI3_SCK/TWI0_SCK, 22 VCC_PE, 23 PE2/NCSI_HSYNC/RMII_CRS_DV/I2S1_LRCK/PWM2/SDC1_D0/UART3_CTS/TWI1_SCK, 24 PE7/NCSI_D3/RMII_RXER/PWM7/UART1_RX/I2S1_DOUT0/TWI4_SDA, 25 PE0/NCSI_PCLK/RMII_RXD1/I2S1_MCLK/PWM0/SDC1_CLK/UART3_TX/TWI3_SCK, 26 PE5/NCSI_D1/RMII_TXD1/PWM5/SDC1_D3/TWI3_SDA/TWI0_SDA, 27 PE8/NCSI_D4/MDC/PWM8/WIEGAND_D0/I2S1_DIN0/TWI1_SCK, 28 PE9/NCSI_D5/MDIO/PWM9/WIEGAND_D1/I2S1_LRCK/TWI1_SDA, 29 PE3/NCSI_VSYNC/RMII_RXD0/I2S1_DIN0/PWM3/SDC1_D1/UART3_RTS/TWI1_SDA, 30 PE6/NCSI_D2/RMII_TXEN/PWM6/UART1_TX/TWI4_SCK, 31 PE1/NCSI_MCLK/RMII_TXCK/I2S1_BCLK/PWM1/SDC1_CMD/UART3_RX/TWI3_SDA, 32 PE10/NCSI_D6/EPHY_25M/PWM10/UART2_RTS/I2S1_BCLK/WIEGAND_D0, 33 VDD_SYS2, 34 VCC_DRAM0, 35 VDD_SYS3, 36 VCC_DRAM1, 37 VDD18-DRAM, 38 PH14/JTAG_DI/TWI3_SDA/SPI3_CS0/WIEGAND_D1/PWM7, 39 PH13/JTAG_DO/TWI3_SCK/SPI3_MISO/WIEGAND_D0/PWM6, 40 PH12/JTAG_CK/TWI2_SDA/SPI3_MOSI/CLK_FANOUT1/PWM5, 41 PH11/JTAG_MS/TWI2_SCK/SPI3_CLK/CLK_FANOUT0/PWM4, 42 PH10/PWM10/TWI3_SDA/UART0_RX, 43 PH9/PWM9/TWI3_SCK/UART0_TX, 44 VCC_IO, 45 PH0/PWM0, 46 GPADC0, 47 VDD33, 48 AVCC, 49 LINEOUTP, 50 VRA1, 51 AGND, 52 MICIN1N, 53 MICIN1P, 54 VDD_SYS4, 55 VCC-PC, 56 PC1/SDC2_CMD/SPI0_CS0, 57 PC0/SDC2_CLK/SPI0_CLK, 58 PC3/SDC2_D1/SPI0_MISO/BOOT_SEL1, 59 PC2/SDC2_D2/SPI0_MOSI/BOOT_SEL0, 60 PC5/SDC2_D3/SPI0_HOLD/PWM5/TWI1_SDA, 61 PC4/SDC2_D0/SPI0_WP/PWM4/TWI1_SCK, 62 VCC_PA_MCSI, 63 PA11/MIPIB_RX_CK0P/MIPI_CSI_MCLK1/TWI0_SDA/CLK_FANOUT1, 64 PA10/MIPIB_RX_CK0N/MIPI_CSI_MCLK0/TWI0_SCK/CLK_FANOUT0, 65 PA9/MIPIB_RX_D1P/TWI4_SDA/TWI3_SDA/PWM3/UART2_RX, 66 PA8/MIPIB_RX_D1N/TWI4_SCK/TWI3_SCK/PWM2/UART2_TX, 67 PA7/MIPIB_RX_D0P/TWI1_SDA/PWM1, 68 PA6/MIPIB_RX_D0N/TWI1_SCK/PWM0, 69 PA5/MIPIA_RX_D0N, 70 PA4/MIPIA_RX_D0P, 71 PA3/MIPIA_RX_D1P, 72 PA2/MIPIA_RX_D1N, 73 PA1/MIPIA_RX_CK0N, 74 PA0/MIPIA_RX_CK0P, 75 VDD_SYS5, 76 USB0_DP, 77 USB0_DM, 78 VCC33-USB, 79 VCC18_MDSI/LINK_LED(SIP EPHY), 80 PD1/LCD_D3/PWM0/RMII_RXD1/DSI_D0N/SPI1_CS0/DBI_CSX/SPD_LED(SIP EPHY), 81 PD2/LCD_D4/PWM1/RMII_RXD0/DSI_D0P/SPI1_CLK/DBI_SCLK/EPHY_RTX(SIP EPHY), 82 PD3/LCD_D5/PWM2/RMII_CRS_DV/DSI_D1N/SPI1_MOSI/DBI_SDO/VCC33-EPHY(SIP EPHY), 83 PD4/LCD_D6/PWM3/RMII_RXER/DSI_D1P/SPI1_MISO/DBI_SDI/DBI_TE/DBI_DCX/EPHY_TXP(SIP EPHY), 84 PD5/LCD_D7/PWM4/RMII_TXD1/DSI_CKN/SPI1_HOLD/DBI_DCX/DBI_WRX/EPHY_TXN(SIP EPHY), 85 PD6/LCD_D10/PWM5/RMII_TXD0/DSI_CKP/SPI1_WP/DBI_TE/EPHY_GND(SIP EPHY), 86 PD7/LCD_D11/PWM6/RMII_TXCK/DSI_D2N/SPI1_CS1/EPHY_RXP(SIP EPHY), 87 PD8/LCD_D12/PWM7/RMII_TXEN/EPHY_RXN(SIP EPHY), 88 VDD_SYS6/VDD_EPHY(SIP EPHY), 89 EPAD